# Altium footprint library others.PcbLib: 82 footprints (part 6 of 6)
Each footprint in its own frame and in the unit in brackets; x right, y up, seen from the top. Pads: shape width x height; smd on the part's side, far side on the other; paste and mask are expansions set on the pad; w line width, h text height; cw(c..) or ccw(c..) is an arc to the next point about the centre after c.
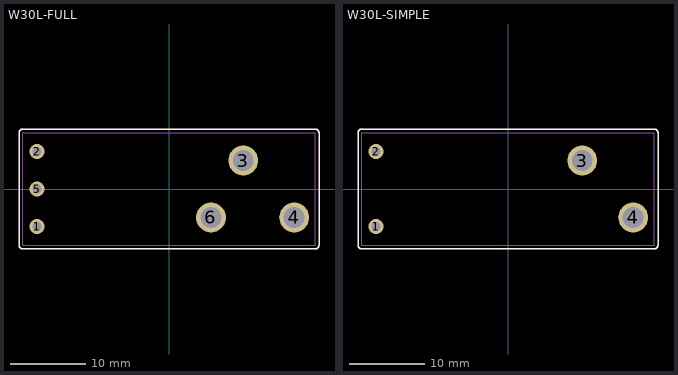
[diagram p5: the footprints below, top view; thin cyan lines are the x and y axes]

## W30L-FULL [mm] "Latching relay"
height 30.5
pads (6):
  round 2 hole 1.2: 1(-17.6,-5) 2(-17.6,5) 5(-17.6,0)
  round 4 hole 2.8: 3(9.9,3.8) 4(16.7,-3.8) 6(5.6,-3.8)
Top Overlay:
  lines w0.2: -20,-7.5 ccw(c-19.5,-7.5) -19.5,-8 19.5,-8 ccw(c19.5,-7.5) 20,-7.5 20,7.5 ccw(c19.5,7.5) 19.5,8 -19.5,8 ccw(c-19.5,7.5) -20,7.5 -20,-7.5
Mechanical 1:
  lines w0.1: -19.5,-7.5 19.5,-7.5 19.5,7.5 -19.5,7.5 -19.5,-7.5
3D body: height 30.5, standoff 0.3, extent -19.51,-7.51 19.51,7.51
3D body: height 1, standoff -3.6, extent -17.9,4.7 -17.3,5.3
3D body: height 1, standoff -3.6, extent -17.9,-0.3 -17.3,0.3
3D body: height 1, standoff -3.6, extent -17.9,-5.3 -17.3,-4.7
3D body: height 1, standoff -3.6, extent 15.9,-4.6 17.5,-3
3D body: height 1, standoff -3.6, extent 4.8,-4.6 6.4,-3
3D body: height 1, standoff -3.6, extent 9.1,3 10.7,4.6

## W30L-SIMPLE [mm] "Latching relay"
height 30.5
pads (4):
  round 2 hole 1.2: 1(-17.6,-5) 2(-17.6,5)
  round 4 hole 2.8: 3(9.9,3.8) 4(16.7,-3.8)
Top Overlay:
  lines w0.2: -20,-7.5 ccw(c-19.5,-7.5) -19.5,-8 19.5,-8 ccw(c19.5,-7.5) 20,-7.5 20,7.5 ccw(c19.5,7.5) 19.5,8 -19.5,8 ccw(c-19.5,7.5) -20,7.5 -20,-7.5
Mechanical 1:
  lines w0.1: -19.5,-7.5 -19.5,7.5 19.5,7.5 19.5,-7.5 -19.5,-7.5
3D body: height 1, standoff -3.6, extent 9.1,3 10.7,4.6
3D body: height 1, standoff -3.6, extent 15.9,-4.6 17.5,-3
3D body: height 1, standoff -3.6, extent -17.9,-5.3 -17.3,-4.7
3D body: height 1, standoff -3.6, extent -17.9,4.7 -17.3,5.3
3D body: height 30.5, standoff 0.3, extent -19.51,-7.51 19.51,7.51